# Altium footprint library CAPPOL-13x26_1000uF_50V.PcbLib: 1 footprints
Each footprint in its own frame and in the unit in brackets; x right, y up, seen from the top. Pads: shape width x height; smd on the part's side, far side on the other; paste and mask are expansions set on the pad; w line width, h text height; cw(c..) or ccw(c..) is an arc to the next point about the centre after c.
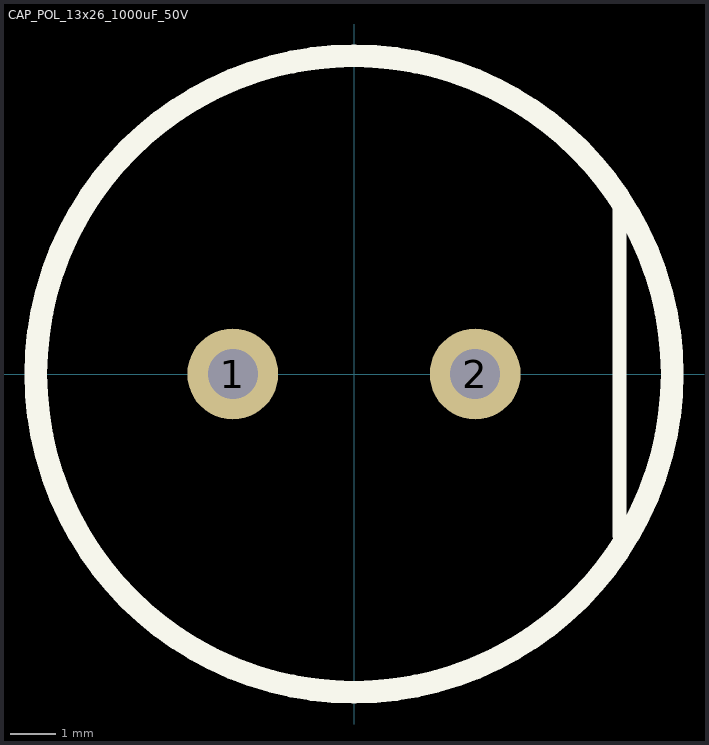
[diagram p0: the footprint, top view; thin cyan lines are the x and y axes]

## CAP_POL_13x26_1000uF_50V [mm]
pads (2):
  round 2 hole 1.1: 1(-2.667,0) 2(2.667,0)
Top Overlay:
  circle w0.5: c0,0 r7
  lines w0.3: 5.842,-3.556 5.842,3.81
3D body "HITANO 1000uF 50V 85.STEP": height 25.72, standoff -27.73, extent -6.3,-6.3 6.31,6.31